# Altium schematic symbol library PicoBlade.SchLib: 1 symbol
Pins are listed as number, name and electrical type; pins without a type are passive.

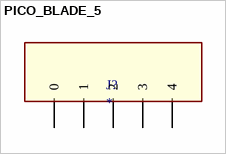
[diagram p0: symbol PICO_BLADE_5]

## PICO_BLADE_5
designator J?
1x5 header; URL: https://www.tme.eu/pl/details/mx-53047-0510/zlacza-sygnalowe-raster-125mm/molex/530470510/
footprint PicoBlade_THT_1x5_HEADER
pins: 0, 1, 2, 3, 4